# Altium integrated library BK-18650-PC4.IntLib: 1 symbol
Pins are listed as number, name and electrical type; pins without a type are passive.

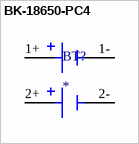
[diagram p0: symbol BK-18650-PC4]

## BK-18650-PC4
designator BT?
Battery Holder (Open) 18650 2 Cell PC Pin; MP: BK-18650-PC4; Price: None; Value: *; Package: None; Availability: Unavailable
footprint BAT_BK-18650-PC4
pins: 1+, 1-, 2+, 2-